# EAGLE library part LTC1063 (library alexwhittemore-eagle)
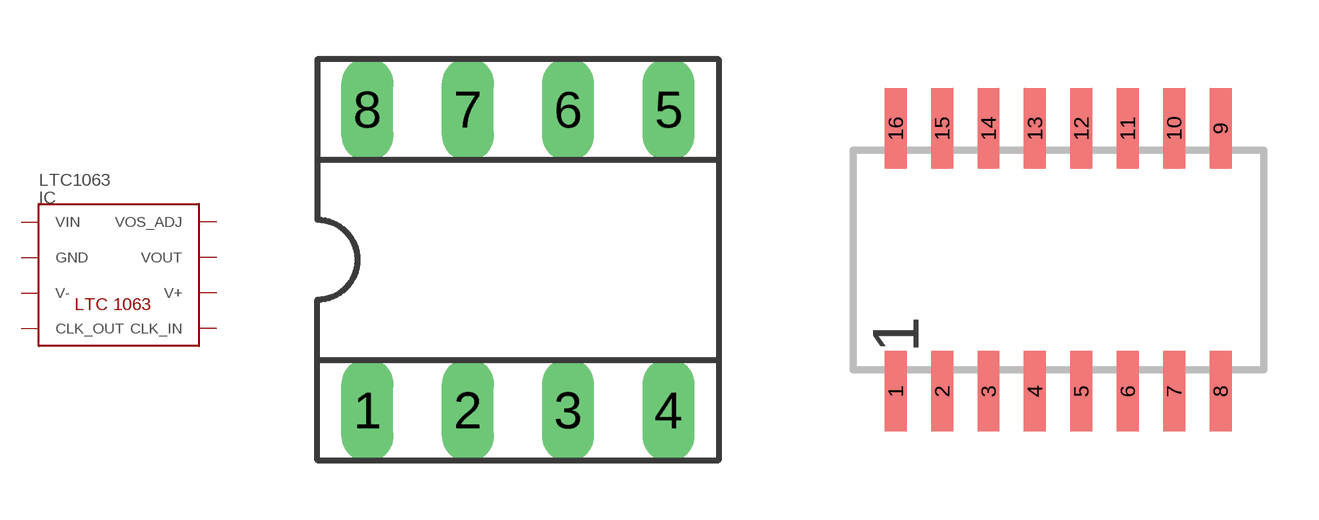
[diagram p7: symbol with the pads of SOCKED-08; footprints SOCKED-08, SOP16]

Designator prefix IC

## LTC1063PDIP  [SOCKED-08]
1  VIN
2  GND
3  V-
4  CLK_OUT
5  CLK_IN
6  V+
7  VOUT
8  VOS_ADJ

## LTC1063SW  [SOP16]
2  VIN
3  GND
5  V-
8  CLK_OUT
9  CLK_IN
12  V+
14  VOUT
16  VOS_ADJ

## Footprint SOCKED-08 (pad centres in mm)
Dual In Line Socked
drill 0.813 long: 1 -3.81,-3.81; 2 -1.27,-3.81; 3 1.27,-3.81; 4 3.81,-3.81; 5 3.81,3.81; 6 1.27,3.81; 7 -1.27,3.81; 8 -3.81,3.81

## Footprint SOP16 (pad centres in mm)
SMALL OUTLINE PACKAGE
smd 0.6 x 2.2: 1 -4.445,-3.6; 2 -3.175,-3.6; 3 -1.905,-3.6; 4 -0.635,-3.6; 5 0.635,-3.6; 6 1.905,-3.6; 7 3.175,-3.6; 8 4.445,-3.6; 9 4.445,3.6; 10 3.175,3.6; 11 1.905,3.6; 12 0.635,3.6; 13 -0.635,3.6; 14 -1.905,3.6; 15 -3.175,3.6; 16 -4.445,3.6